# Altium footprint library SD_Card.PcbLib: 1 footprints
Each footprint in its own frame and in the unit in brackets; x right, y up, seen from the top. Pads: shape width x height; smd on the part's side, far side on the other; paste and mask are expansions set on the pad; w line width, h text height; cw(c..) or ccw(c..) is an arc to the next point about the centre after c.
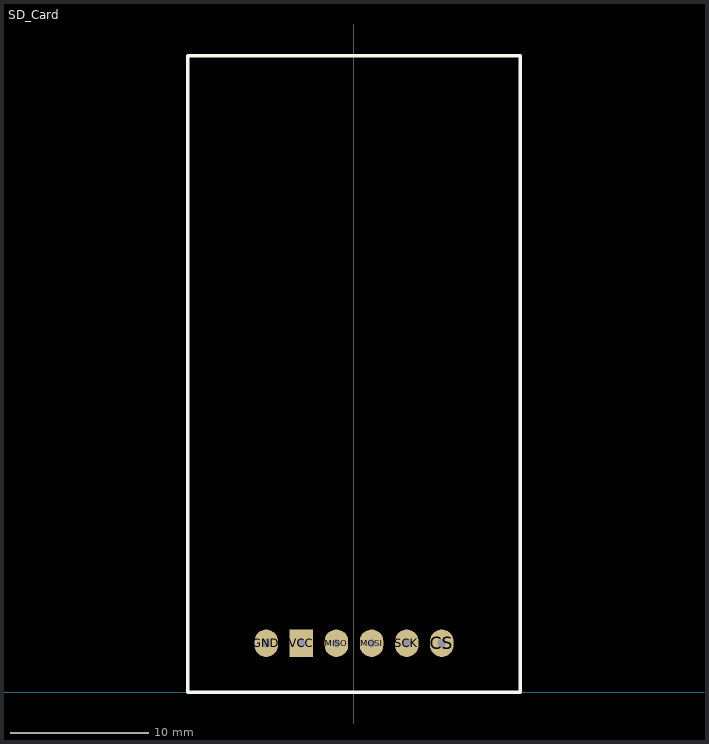
[diagram p0: the footprint, top view; thin cyan lines are the x and y axes]

## SD_Card [mm]
pads (6):
  oval 1.7x2 hole 0.6: CS(6.35,3.54) GND(-6.35,3.54) MISO(-1.27,3.54) MOSI(1.27,3.54) SCK(3.81,3.54)
  rect 1.7x2 hole 0.6: VCC(-3.81,3.54)
Top Overlay:
  lines w0.254: -12,0 -12,46 12,46 12,0 -12,0
3D body "Micro SD Card Module.stp": height 3.38, standoff -0.03, extent -11.773,0 11.773,41.935